# Altium footprint library BELFUSE_0826-1X1T-43-F.PcbLib: 1 footprints
Each footprint in its own frame and in the unit in brackets; x right, y up, seen from the top. Pads: shape width x height; smd on the part's side, far side on the other; paste and mask are expansions set on the pad; w line width, h text height; cw(c..) or ccw(c..) is an arc to the next point about the centre after c.
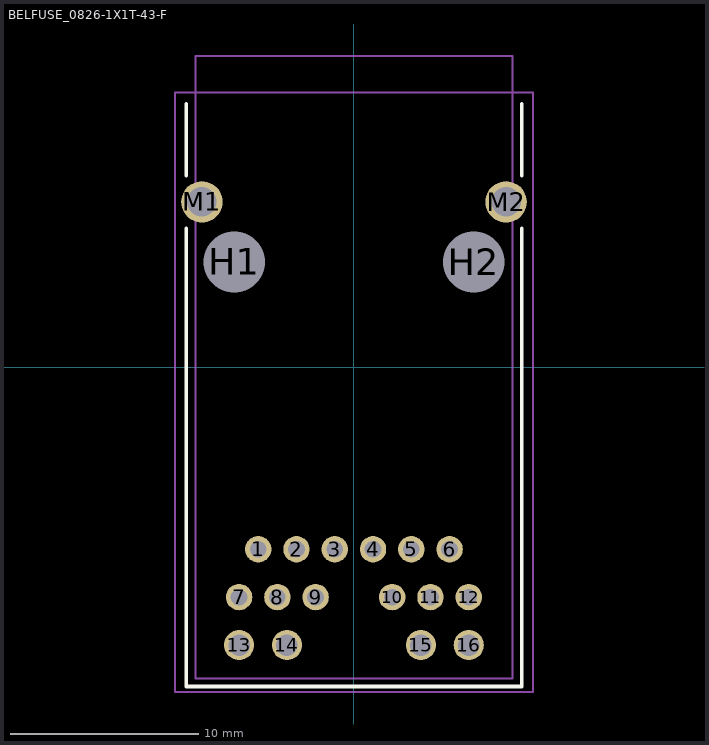
[diagram p0: the footprint, top view; thin cyan lines are the x and y axes]

## BELFUSE_0826-1X1T-43-F [mm]
pads (20):
  round 1.4 hole 0.89: 1(-5.08,-9.66) 2(-3.05,-9.66) 3(-1.02,-9.66) 4(1.01,-9.66) 5(3.04,-9.66) 6(5.07,-9.66) 7(-6.095,-12.2) 8(-4.065,-12.2) 9(-2.035,-12.2) 10(2.025,-12.2) 11(4.055,-12.2) 12(6.085,-12.2)
  round 1.6 hole 1.14: 13(-6.095,-14.74) 14(-3.555,-14.74) 15(3.545,-14.74) 16(6.085,-14.74)
  round 3.15 hole 3.25 unplated paste+0 mask+0.15: H1(-6.35,5.58) H2(6.35,5.58)
  round 2.2 hole 1.57: M1(-8.065,8.76) M2(8.065,8.76)
Top Overlay:
  lines w0.2: -8.9,7.36 -8.9,-16.94 8.9,-16.94 8.9,7.36 ; -8.9,10.16 -8.9,13.96 ; 8.9,10.16 8.9,13.96
Mechanical 13:
  lines w0.1: -8.4,-16.51 -8.4,16.51 8.4,16.51 8.4,-16.51 -8.4,-16.51
Mechanical 15:
  lines w0.1: -9.5,-17.24 -9.5,14.56 9.5,14.56 9.5,-17.24 -9.5,-17.24
3D body: height 14.47, standoff -3.68, extent -9.3,-16.5 9.264,16.52